# Altium integrated library TI Power Management Battery Management.IntLib: 949 symbols (part 3 of 62)
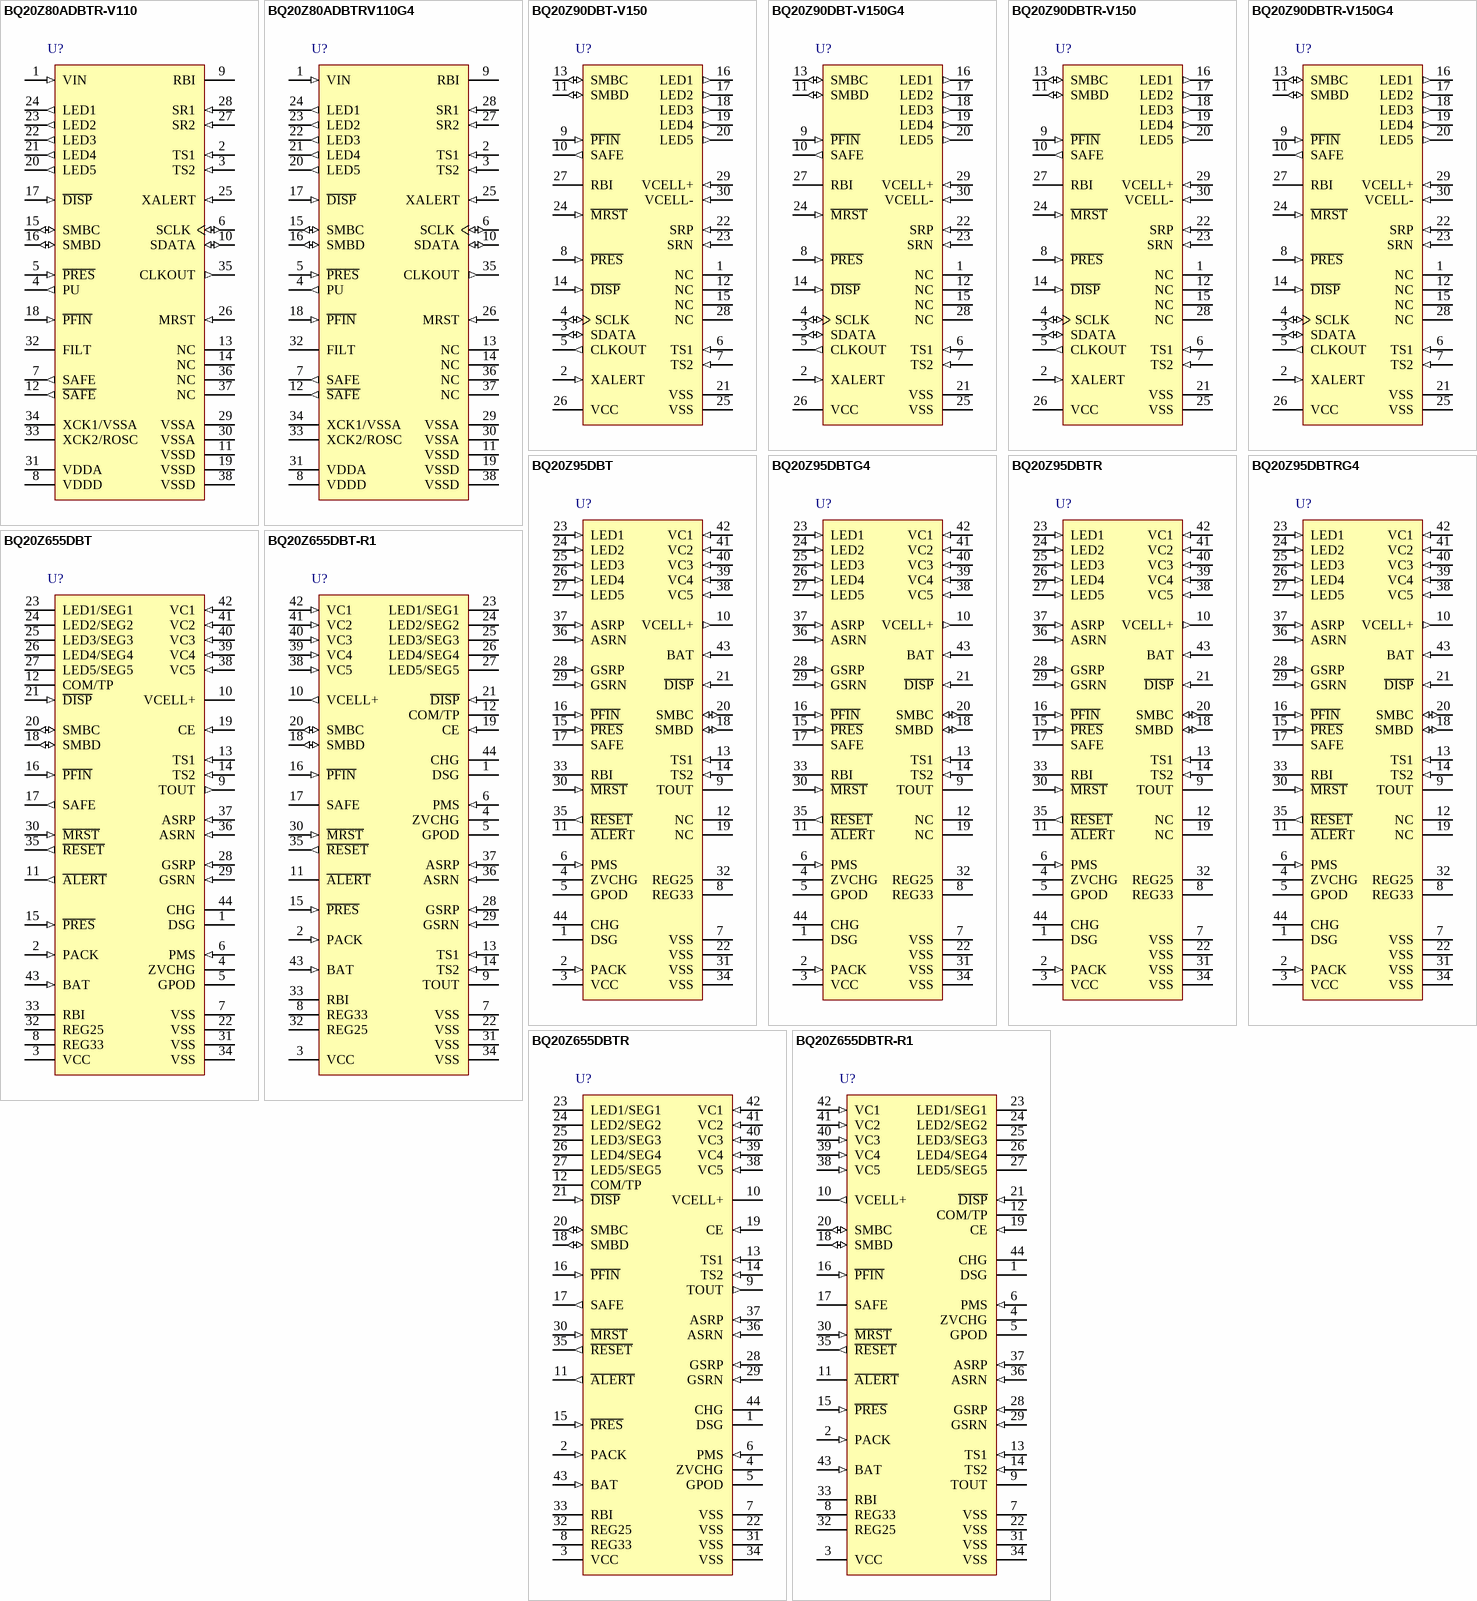
[diagram p36: symbols BQ20Z80ADBTR-V110 to BQ20Z655DBTR-R1]

## BQ20Z95DBTG4
designator U?
SBS 1.1-Compliant Gas Gauge Enabled with Impedance Track, -40 to 85 degC, 44-pin TSSOP (DBT), Green (RoHS & no Sb/Br); PartNumber: BQ20Z95DBTG4; Manufacturer: Texas Instruments; Lead Acid: N; Li-Ion: Y; SubFamily: Battery Fuel Gauge; DatasheetVersion: SLUS757B; PackageVersion: 38596; PackageReference: DBT44; PackageDescription: 44-Pin Thin Shrink Small Outline Package 0.5 mm Pitch; Supplier 1: Digi-Key; Supplier Part Number 1: BQ20Z95DBTG4-ND; Supplier 2: Newark; Supplier Part Number 2: 34P3336; Supplier 3: Mouser; Supplier Part Number 3: 595-BQ20Z95DBTG4; Eco-Plan: Green (RoHS & no Sb/Br); Li-Polymer: Y; NiCd: N; NiMH: N; Over Voltage Protection: N; Mounting Technology: Surface Mount; ComponentLink1Description: Datasheet; ComponentLink1URL: http://www.ti.com/general/docs/lit/getliterature.tsp?genericPartNumber=BQ20Z95&fileType=pdf
footprint DBT44_N (TSSOP, 44-Leads, Body 11.3x4.4mm, Pitch 0.5mm, IPC Medium Density)
footprint DBT44_L (TSSOP, 44-Leads, Body 11.3x4.4mm, Pitch 0.5mm, IPC High Density)
footprint DBT44_M (TSSOP, 44-Leads, Body 11.3x4.4mm, Pitch 0.5mm, IPC Low Density)
pins: 1 DSG "High side N-chan discharge FET gate drive", 2 PACK (in) "Battery pack input voltage sense input. It also serves as device wake up when device is in shutdown mode", 3 VCC (power) "Positive device supply input. Connect to the center connection of the CHG FET and DSG FET to ensure device supply either from battery stack or battery pack input", 4 ZVCHG "P-chan pre-charge FET gate drive", 5 GPOD (oc) "High voltage general purpose open drain output. Can be configured to be used in pre-charge condition", 6 PMS (in) "Pre-charge mode setting input. Connect to PACK to enable 0v pre-charge using charge FET connected at CHG pin. Connect to VSS to disable 0V pre-charge using charge FET connected at CHG pin", 7 VSS (power) "Negative device power supply input. Connect all VSS pins together for operation of device", 8 REG33 (power) "3.3V regulator output. Connect at least a 2.2uF capacitor to REG33 and VSS", 9 TOUT "Thermistor bias supply output", 10 VCELL+ (out) "Internal cell voltage multiplexer and amplifier output. Connect a 0.1uF capacitor to VCELL+ and VSS", 11 ~{ALER}T (oc) "Alert output. In case of short circuit condition, overload condition and watchdog time out this pin will be triggered.", 12 NC "Not connected", 13 TS1 (in) "Temperature sensor 1 input", 14 TS2 (in) "Temperature sensor 2 input", 15 ~{PRES} (in) "System / Host present input. Pull up to TOUT", 16 ~{PFIN} (in) "Fuse blow detection input", 17 SAFE (oc) "blow fuse signal output", 18 SMBD (io) "SMBus data line", 19 NC "Not connected", 20 SMBC (io) "SMBus clock line", 21 ~{DISP} (in) "Display enable input", 22 VSS (power) "Negative device power supply input. Connect all VSS pins together for operation of device", 23 LED1 (in) "LED 1 current sink input", 24 LED2 (in) "LED 2 current sink input", 25 LED3 (in) "LED 3 current sink input", 26 LED4 (in) "LED 4 current sink input", 27 LED5 (in) "LED 5 current sink input", 28 GSRP (in) "Coulomb counter differential input. Connect to one side of the sense resistor", 29 GSRN (in) "Coulomb counter differential input. Connect to one side of the sense resistor", 30 ~{MRST} (in) "Reset input for internal CPU core. connect to RESET for correct operation of device", 31 VSS (power) "Negative device power supply input. Connect all VSS pins together for operation of device", 32 REG25 (power) "2.5V regulator output. Connect at least a 1uF capacitor to REG25 and VSS", 33 RBI (power) "RAM backup input. Connect a capacitor to this pin and VSS to protect loss of RAM data in case of short circuit condition", 34 VSS (power) "Negative device power supply input. Connect all VSS pins together for operation of device", 35 ~{RESET} (out) "Reset output. Connect to M\S\R\T\.", 36 ASRN (in) "Short circuit and overload detection differential input. Connect to sense resistor", 37 ASRP (in) "Short circuit and overload detection differential input. Connect to sense resistor", 38 VC5 (in) "Cell voltage sense input and cell balancing input for the negative voltage of the bottom cell in cell stack", 39 VC4 (in) "Cell voltage sense input and cell balancing input for the positive voltage of the bottom cell and the negative voltage of the second lowest cell in cell stack.", 40 VC3 (in) "Cell voltage sense input and cell balancing input for the positive voltage of the second lowest cell in cell stack and the negative voltage of the second highest cell in 4 cell applications.", 41 VC2 (in) "Cell voltage sense input and cell balancing input for the positive voltage of the second highest cell and the negative voltage of the highest cell in 4 cell applications. Connect to VC3 in 2 cell stack applications", 42 VC1 (in) "Cell voltage sense input and cell balancing input for the positive voltage of the highest cell in cell stack in 4 cell applications. Connect to VC2 in 3 or 2 cell stack applications", 43 BAT (in) "Battery stack voltage sense input", 44 CHG "High side N-chan charge FET gate drive"

## BQ20Z95DBTR
designator U?
SBS 1.1-Compliant Gas Gauge Enabled with Impedance Track, -40 to 85 degC, 44-pin TSSOP (DBT), Green (RoHS & no Sb/Br); PartNumber: BQ20Z95DBTR; Manufacturer: Texas Instruments; Lead Acid: N; Li-Ion: Y; SubFamily: Battery Fuel Gauge; DatasheetVersion: SLUS757B; PackageVersion: 38596; PackageReference: DBT44; PackageDescription: 44-Pin Thin Shrink Small Outline Package 0.5 mm Pitch; Supplier 1: Digi-Key; Supplier Part Number 1: 296-25920-2-ND; Supplier 2: Digi-Key; Supplier Part Number 2: 296-25920-1-ND; Supplier 3: Digi-Key; Supplier Part Number 3: 296-25920-6-ND; Supplier 4: Newark; Supplier Part Number 4: 59M9836; Supplier 5: Mouser; Supplier Part Number 5: 595-BQ20Z95DBTR; Eco-Plan: Green (RoHS & no Sb/Br); Li-Polymer: Y; NiCd: N; NiMH: N; Over Voltage Protection: N; Mounting Technology: Surface Mount; ComponentLink1Description: Datasheet; ComponentLink1URL: http://www.ti.com/general/docs/lit/getliterature.tsp?genericPartNumber=BQ20Z95&fileType=pdf
footprint DBT44_N (TSSOP, 44-Leads, Body 11.3x4.4mm, Pitch 0.5mm, IPC Medium Density)
footprint DBT44_L (TSSOP, 44-Leads, Body 11.3x4.4mm, Pitch 0.5mm, IPC High Density)
footprint DBT44_M (TSSOP, 44-Leads, Body 11.3x4.4mm, Pitch 0.5mm, IPC Low Density)
pins: 1 DSG "High side N-chan discharge FET gate drive", 2 PACK (in) "Battery pack input voltage sense input. It also serves as device wake up when device is in shutdown mode", 3 VCC (power) "Positive device supply input. Connect to the center connection of the CHG FET and DSG FET to ensure device supply either from battery stack or battery pack input", 4 ZVCHG "P-chan pre-charge FET gate drive", 5 GPOD (oc) "High voltage general purpose open drain output. Can be configured to be used in pre-charge condition", 6 PMS (in) "Pre-charge mode setting input. Connect to PACK to enable 0v pre-charge using charge FET connected at CHG pin. Connect to VSS to disable 0V pre-charge using charge FET connected at CHG pin", 7 VSS (power) "Negative device power supply input. Connect all VSS pins together for operation of device", 8 REG33 (power) "3.3V regulator output. Connect at least a 2.2uF capacitor to REG33 and VSS", 9 TOUT "Thermistor bias supply output", 10 VCELL+ (out) "Internal cell voltage multiplexer and amplifier output. Connect a 0.1uF capacitor to VCELL+ and VSS", 11 ~{ALER}T (oc) "Alert output. In case of short circuit condition, overload condition and watchdog time out this pin will be triggered.", 12 NC "Not connected", 13 TS1 (in) "Temperature sensor 1 input", 14 TS2 (in) "Temperature sensor 2 input", 15 ~{PRES} (in) "System / Host present input. Pull up to TOUT", 16 ~{PFIN} (in) "Fuse blow detection input", 17 SAFE (oc) "blow fuse signal output", 18 SMBD (io) "SMBus data line", 19 NC "Not connected", 20 SMBC (io) "SMBus clock line", 21 ~{DISP} (in) "Display enable input", 22 VSS (power) "Negative device power supply input. Connect all VSS pins together for operation of device", 23 LED1 (in) "LED 1 current sink input", 24 LED2 (in) "LED 2 current sink input", 25 LED3 (in) "LED 3 current sink input", 26 LED4 (in) "LED 4 current sink input", 27 LED5 (in) "LED 5 current sink input", 28 GSRP (in) "Coulomb counter differential input. Connect to one side of the sense resistor", 29 GSRN (in) "Coulomb counter differential input. Connect to one side of the sense resistor", 30 ~{MRST} (in) "Reset input for internal CPU core. connect to RESET for correct operation of device", 31 VSS (power) "Negative device power supply input. Connect all VSS pins together for operation of device", 32 REG25 (power) "2.5V regulator output. Connect at least a 1uF capacitor to REG25 and VSS", 33 RBI (power) "RAM backup input. Connect a capacitor to this pin and VSS to protect loss of RAM data in case of short circuit condition", 34 VSS (power) "Negative device power supply input. Connect all VSS pins together for operation of device", 35 ~{RESET} (out) "Reset output. Connect to M\S\R\T\.", 36 ASRN (in) "Short circuit and overload detection differential input. Connect to sense resistor", 37 ASRP (in) "Short circuit and overload detection differential input. Connect to sense resistor", 38 VC5 (in) "Cell voltage sense input and cell balancing input for the negative voltage of the bottom cell in cell stack", 39 VC4 (in) "Cell voltage sense input and cell balancing input for the positive voltage of the bottom cell and the negative voltage of the second lowest cell in cell stack.", 40 VC3 (in) "Cell voltage sense input and cell balancing input for the positive voltage of the second lowest cell in cell stack and the negative voltage of the second highest cell in 4 cell applications.", 41 VC2 (in) "Cell voltage sense input and cell balancing input for the positive voltage of the second highest cell and the negative voltage of the highest cell in 4 cell applications. Connect to VC3 in 2 cell stack applications", 42 VC1 (in) "Cell voltage sense input and cell balancing input for the positive voltage of the highest cell in cell stack in 4 cell applications. Connect to VC2 in 3 or 2 cell stack applications", 43 BAT (in) "Battery stack voltage sense input", 44 CHG "High side N-chan charge FET gate drive"

## BQ20Z95DBTRG4
designator U?
SBS 1.1-Compliant Gas Gauge Enabled with Impedance Track, -40 to 85 degC, 44-pin TSSOP (DBT), Green (RoHS & no Sb/Br); PartNumber: BQ20Z95DBTRG4; Manufacturer: Texas Instruments; Lead Acid: N; Li-Ion: Y; SubFamily: Battery Fuel Gauge; DatasheetVersion: SLUS757B; PackageVersion: 38596; PackageReference: DBT44; PackageDescription: 44-Pin Thin Shrink Small Outline Package 0.5 mm Pitch; Supplier 1: Digi-Key; Supplier Part Number 1: BQ20Z95DBTRG4-ND; Supplier 2: Mouser; Supplier Part Number 2: 595-BQ20Z95DBTRG4; Eco-Plan: Green (RoHS & no Sb/Br); Li-Polymer: Y; NiCd: N; NiMH: N; Over Voltage Protection: N; Mounting Technology: Surface Mount; ComponentLink1Description: Datasheet; ComponentLink1URL: http://www.ti.com/general/docs/lit/getliterature.tsp?genericPartNumber=BQ20Z95&fileType=pdf
footprint DBT44_N (TSSOP, 44-Leads, Body 11.3x4.4mm, Pitch 0.5mm, IPC Medium Density)
footprint DBT44_L (TSSOP, 44-Leads, Body 11.3x4.4mm, Pitch 0.5mm, IPC High Density)
footprint DBT44_M (TSSOP, 44-Leads, Body 11.3x4.4mm, Pitch 0.5mm, IPC Low Density)
pins: 1 DSG "High side N-chan discharge FET gate drive", 2 PACK (in) "Battery pack input voltage sense input. It also serves as device wake up when device is in shutdown mode", 3 VCC (power) "Positive device supply input. Connect to the center connection of the CHG FET and DSG FET to ensure device supply either from battery stack or battery pack input", 4 ZVCHG "P-chan pre-charge FET gate drive", 5 GPOD (oc) "High voltage general purpose open drain output. Can be configured to be used in pre-charge condition", 6 PMS (in) "Pre-charge mode setting input. Connect to PACK to enable 0v pre-charge using charge FET connected at CHG pin. Connect to VSS to disable 0V pre-charge using charge FET connected at CHG pin", 7 VSS (power) "Negative device power supply input. Connect all VSS pins together for operation of device", 8 REG33 (power) "3.3V regulator output. Connect at least a 2.2uF capacitor to REG33 and VSS", 9 TOUT "Thermistor bias supply output", 10 VCELL+ (out) "Internal cell voltage multiplexer and amplifier output. Connect a 0.1uF capacitor to VCELL+ and VSS", 11 ~{ALER}T (oc) "Alert output. In case of short circuit condition, overload condition and watchdog time out this pin will be triggered.", 12 NC "Not connected", 13 TS1 (in) "Temperature sensor 1 input", 14 TS2 (in) "Temperature sensor 2 input", 15 ~{PRES} (in) "System / Host present input. Pull up to TOUT", 16 ~{PFIN} (in) "Fuse blow detection input", 17 SAFE (oc) "blow fuse signal output", 18 SMBD (io) "SMBus data line", 19 NC "Not connected", 20 SMBC (io) "SMBus clock line", 21 ~{DISP} (in) "Display enable input", 22 VSS (power) "Negative device power supply input. Connect all VSS pins together for operation of device", 23 LED1 (in) "LED 1 current sink input", 24 LED2 (in) "LED 2 current sink input", 25 LED3 (in) "LED 3 current sink input", 26 LED4 (in) "LED 4 current sink input", 27 LED5 (in) "LED 5 current sink input", 28 GSRP (in) "Coulomb counter differential input. Connect to one side of the sense resistor", 29 GSRN (in) "Coulomb counter differential input. Connect to one side of the sense resistor", 30 ~{MRST} (in) "Reset input for internal CPU core. connect to RESET for correct operation of device", 31 VSS (power) "Negative device power supply input. Connect all VSS pins together for operation of device", 32 REG25 (power) "2.5V regulator output. Connect at least a 1uF capacitor to REG25 and VSS", 33 RBI (power) "RAM backup input. Connect a capacitor to this pin and VSS to protect loss of RAM data in case of short circuit condition", 34 VSS (power) "Negative device power supply input. Connect all VSS pins together for operation of device", 35 ~{RESET} (out) "Reset output. Connect to M\S\R\T\.", 36 ASRN (in) "Short circuit and overload detection differential input. Connect to sense resistor", 37 ASRP (in) "Short circuit and overload detection differential input. Connect to sense resistor", 38 VC5 (in) "Cell voltage sense input and cell balancing input for the negative voltage of the bottom cell in cell stack", 39 VC4 (in) "Cell voltage sense input and cell balancing input for the positive voltage of the bottom cell and the negative voltage of the second lowest cell in cell stack.", 40 VC3 (in) "Cell voltage sense input and cell balancing input for the positive voltage of the second lowest cell in cell stack and the negative voltage of the second highest cell in 4 cell applications.", 41 VC2 (in) "Cell voltage sense input and cell balancing input for the positive voltage of the second highest cell and the negative voltage of the highest cell in 4 cell applications. Connect to VC3 in 2 cell stack applications", 42 VC1 (in) "Cell voltage sense input and cell balancing input for the positive voltage of the highest cell in cell stack in 4 cell applications. Connect to VC2 in 3 or 2 cell stack applications", 43 BAT (in) "Battery stack voltage sense input", 44 CHG "High side N-chan charge FET gate drive"

## BQ20Z655DBT
designator U?
SBS 1.1 Compliant Gas Gauge with LED / LCD Drive Feature and Impedance Track Technology, -40 to 85 degC, 44-pin TSSOP (DBT), Green (RoHS & no Sb/Br); PartNumber: BQ20Z655DBT; Manufacturer: Texas Instruments; Lead Acid: N; Li-Ion: Y; SubFamily: Battery Fuel Gauge; DatasheetVersion: SLUSAH8A; PackageVersion: 38596; PackageReference: DBT44; PackageDescription: 44-Pin Thin Shrink Small Outline Package 0.5 mm Pitch; Supplier 1: Digi-Key; Supplier Part Number 1: 296-28439-5-ND; Supplier 2: Newark; Supplier Part Number 2: 45T7826; Supplier 3: Mouser; Supplier Part Number 3: 595-BQ20Z655DBT; Eco-Plan: Green (RoHS & no Sb/Br); Li-Polymer: Y; NiCd: N; NiMH: N; Over Voltage Protection: N; Mounting Technology: Surface Mount; ComponentLink1Description: Datasheet; ComponentLink1URL: http://www.ti.com/general/docs/lit/getliterature.tsp?genericPartNumber=BQ20Z655&fileType=pdf
footprint DBT44_N (TSSOP, 44-Leads, Body 11.3x4.4mm, Pitch 0.5mm, IPC Medium Density)
footprint DBT44_L (TSSOP, 44-Leads, Body 11.3x4.4mm, Pitch 0.5mm, IPC High Density)
footprint DBT44_M (TSSOP, 44-Leads, Body 11.3x4.4mm, Pitch 0.5mm, IPC Low Density)
pins: 1 DSG "High side N-chan discharge FET gate drive", 2 PACK (in) "Battery pack input voltage sense input. It also serves as device wake up when device is in shutdown mode.", 3 VCC (power) "Positive device supply input. Connect to the center connection of the CHG FET and DSG FET to ensure device supply either from battery stack or battery pack input.", 4 ZVCHG "P-chan pre-charge FET gate drive", 5 GPOD (oc) "High voltage general purpose open drain output. It can be configured to be used in pre-charge condition", 6 PMS (in) "Pre-charge mode setting input. Connect to PACK to enable 0v pre-charge using charge FET connected at CHG pin. Connect to VSS to disable 0-V pre-charge using charge FET connected at CHG pin", 7 VSS (power) "Negative supply voltage input. Connect all VSS pins together for operation of device.", 8 REG33 (power) "3.3-V regulator output. Connect at least a 2.2-uF capacitor to REG33 and VSS.", 9 TOUT (out) "Thermistor bias supply output", 10 VCELL+ (power) "Internal cell voltage multiplexer and amplifier output. Connect a 0.1-uF capacitor to VCELL+ and VSS.", 11 ~{ALERT} (out) "Alert output. In case of short circuit condition, overload condition, and watchdog time out, this pin will be triggered", 12 COM/TP (oc) "Output/open drain: LCD common connection", 13 TS1 (in) "1st Thermistor voltage input connection to monitor temperature", 14 TS2 (in) "2nd Thermistor voltage input connection to monitor temperature", 15 ~{PRES} (in) "Active low input to sense system insertion. Typically requires additional ESD protection.", 16 ~{PFIN} (in) "Active low input to detect secondary protector status, and to allow the bq20z655 to report the status of the 2nd level protection input", 17 SAFE (out) "Active high output to enforce additional level of safety protection; e.g., fuse blow", 18 SMBD (io) "SMBus data open-drain bidirectional pin used to transfer address and data to and from the bq20z655", 19 CE (in) "A logical high on this pin only affects the normal operation on the charge FET when the battery is in charge/relax mode. For a logic low, the normal bq20z655 firmware controls the charge FET.", 20 SMBC (io) "SMBus clock open-drain bidirectional pin used to clock the data transfer to and from the bq20z655", 21 ~{DISP} (in) "Input: In LED mode, this is the display enable input.", 22 VSS (power) "Negative supply voltage input. Connect all VSS pins together for operation of device.", 23 LED1/SEG1 (oc) "Output/open drain: LED 1 current sink. LCD segment 1", 24 LED2/SEG2 (oc) "Output/open drain: LED 2 current sink. LCD segment 2", 25 LED3/SEG3 (oc) "Output/open drain: LED 3 current sink. LCD segment 3", 26 LED4/SEG4 (oc) "Output/open drain: LED 4 current sink. LCD segment 4", 27 LED5/SEG5 (oc) "Output/open drain: LED 5 current sink. LCD segment 5", 28 GSRP (in) "Coulomb counter differential input. Connect to one side of the sense resistor.", 29 GSRN (in) "Coulomb counter differential input. Connect to one side of the sense resistor.", 30 ~{MRST} (in) "Master reset input that forces the device into reset when held low. Must be held high for normal operation. Connect to R\E\S\E\T\ for correct operation of device", 31 VSS (power) "Negative supply voltage input. Connect all VSS pins together for operation of device.", 32 REG25 (power) "2.5-V regulator output. Connect at least a 1-uF capacitor to REG25 and VSS.", 33 RBI (power) "RAM/Register backup input. Connect a capacitor to this pin and VSS to protect loss of RAM/Register data in case of short circuit condition.", 34 VSS (power) "Negative supply voltage input. Connect all VSS pins together for operation of device.", 35 ~{RESET} (out) "Reset output. Connect to M\S\R\T\.", 36 ASRN (in) "Short circuit and overload detection differential input. Connect to sense resistor", 37 ASRP (in) "Short circuit and overload detection differential input. Connect to sense resistor", 38 VC5 (in) "Cell voltage sense input and cell balancing input for the negative voltage of the bottom cell in cell stack.", 39 VC4 (in) "Cell voltage sense input and cell balancing input for the positive voltage of the bottom cell and the negative voltage of the second lowest cell in cell stack.", 40 VC3 (in) "Cell voltage sense input and cell balancing input for the positive voltage of the second lowest cell in cell stack and the negative voltage of the second highest cell in 4-cell applications.", 41 VC2 (in) "Cell voltage sense input and cell balancing input for the positive voltage of the second highest cell and the negative voltage of the highest cell in 4 cell applications. Connect to VC3 in 2-cell stack applications", 42 VC1 (in) "Cell voltage sense input and cell balancing input for the positive voltage of the highest cell in cell stack in 4 cell applications. Connect to VC2 in 2- or 3-stack applications.", 43 BAT (in) "Battery stack voltage sense input", 44 CHG "High side N-channel charge FET gate drive"

## BQ20Z655DBT-R1
designator U?
SBS 1.1 Compliant Gas Gauge with LED / LCD Drive Feature and Impedance Track Technology, -40 to 85 degC, 44-pin TSSOP (DBT), Green (RoHS & no Sb/Br); PartNumber: BQ20Z655DBT-R1; Manufacturer: Texas Instruments; Lead Acid: N; Li-Ion: Y; SubFamily: Battery Fuel Gauge; DatasheetVersion: SLUSAN9; PackageVersion: 38596; PackageReference: DBT44; PackageDescription: 44-Pin Thin Shrink Small Outline Package 0.5 mm Pitch; Supplier 1: Digi-Key; Supplier Part Number 1: BQ20Z655DBT-R1-ND; Supplier 2: Newark; Supplier Part Number 2: 61T5814; Supplier 3: Mouser; Supplier Part Number 3: 595-BQ20Z655DBT-R1; Eco-Plan: Green (RoHS & no Sb/Br); Li-Polymer: Y; NiCd: N; NiMH: N; Over Voltage Protection: N; Mounting Technology: Surface Mount; ComponentLink1Description: Datasheet; ComponentLink1URL: http://www.ti.com/general/docs/lit/getliterature.tsp?genericPartNumber=BQ20Z655-R1&fileType=pdf
footprint DBT44_N (TSSOP, 44-Leads, Body 11.3x4.4mm, Pitch 0.5mm, IPC Medium Density)
footprint DBT44_L (TSSOP, 44-Leads, Body 11.3x4.4mm, Pitch 0.5mm, IPC High Density)
footprint DBT44_M (TSSOP, 44-Leads, Body 11.3x4.4mm, Pitch 0.5mm, IPC Low Density)
pins: 1 DSG "High side N-chan discharge FET gate drive", 2 PACK (in) "Battery pack input voltage sense input. It also serves as device wake up when device is in shutdown mode.", 3 VCC (power) "Positive device supply input. Connect to the center connection of the CHG FET and DSG FET to ensure device supply either from battery stack or battery pack input", 4 ZVCHG "P-chan pre-charge FET gate drive", 5 GPOD (oc) "High voltage general purpose open drain output. Can be configured to be used in pre-charge condition", 6 PMS (in) "Pre-charge mode setting input. Connect to PACK to enable 0v pre-charge using charge FET connected at CHG pin. Connect to VSS to disable 0V pre-charge using charge FET connected at CHG pin.", 7 VSS (power) "Negative supply voltage input. Connect all VSS pins together for operation of device", 8 REG33 (power) "3.3V regulator output. Connect at least a 2.2uF capacitor to REG33 and VSS", 9 TOUT "Thermistor bias supply output", 10 VCELL+ (out) "Internal cell voltage multiplexer and amplifier output. Connect a 0.1uF capacitor to VCELL+ and VSS", 11 ~{ALERT} (oc) "Alert output. In case of short circuit condition, overload condition and watchdog time out this pin will be triggered.", 12 COM/TP (oc) "Output / open drain: LCD common connection", 13 TS1 (in) "1st Thermistor voltage input connection to monitor temperature", 14 TS2 (in) "2nd Thermistor voltage input connection to monitor temperature", 15 ~{PRES} (in) "Active low input to sense system insertion. Typically requires additional ESD protection.", 16 ~{PFIN} (in) "Active low input to detect secondary protector status, and to allow the bq20z65-R1 to report the status of the 2nd level protection input.", 17 SAFE (oc) "Active high output to enforce additional level of safety protection; e.g., fuse blow.", 18 SMBD (io) "SMBus data open-drain bidirectional pin used to transfer address and data to and from the bq20z65-R1", 19 CE (in) "A logical high on this pin only affects the normal operation on the charge FET when the battery is in charge/relax mode. For a logic low, the normal bq20z655-R1 firmware controls the charge FET.", 20 SMBC (io) "SMBus clock open-drain bidirectional pin used to clock the data transfer to and from the bq20z65-R1", 21 ~{DISP} (in) "Display control for the LEDs. This pin is typically connected to VCC via a 100k ohm resistor and a push button switch connected to VSS.", 22 VSS (power) "Negative supply voltage input. Connect all VSS pins together for operation of device", 23 LED1/SEG1 (oc) "Output / open drain: LED 1 current sink. LCD segment 1", 24 LED2/SEG2 (oc) "Output / open drain: LED 2 current sink. LCD segment 2", 25 LED3/SEG3 (oc) "Output / open drain: LED 3 current sink. LCD segment 3", 26 LED4/SEG4 (oc) "Output / open drain: LED 4 current sink. LCD segment 4", 27 LED5/SEG5 (oc) "Output / open drain: LED 5 current sink. LCD segment 5", 28 GSRP (in) "Coulomb counter differential input. Connect to one side of the sense resistor", 29 GSRN (in) "Coulomb counter differential input. Connect to one side of the sense resistor", 30 ~{MRST} (in) "Master reset input that forces the device into reset when held low. Must be held high for normal operation. Connect to R\E\S\E\T\ for correct operation of device", 31 VSS (power) "Negative supply voltage input. Connect all VSS pins together for operation of device", 32 REG25 (power) "2.5V regulator output. Connect at least a 1mF capacitor to REG25 and VSS", 33 RBI (power) "RAM / Register backup input. Connect a capacitor to this pin and VSS to protect loss of RAM /Register data in case of short circuit condition.", 34 VSS (power) "Negative supply voltage input. Connect all VSS pins together for operation of device", 35 ~{RESET} (out) "Reset output. Connect to M\S\R\T\.", 36 ASRN (in) "Short circuit and overload detection differential input. Connect to sense resistor", 37 ASRP (in) "Short circuit and overload detection differential input. Connect to sense resistor", 38 VC5 (in) "Cell votage sense input and cell balancing input for the negative voltage of the bottom cell in cell stack.", 39 VC4 (in) "Cell votage sense input and cell balancing input for the positive voltage of the bottom cell and the negative voltage of the second lowest cell in cell stack.", 40 VC3 (in) "Cell voltage sense input and cell balancing input for the positive voltage of the second lowest cell in cell stack and the negative voltage of the second highest cell in 4 cell applications.", 41 VC2 (in) "Cell voltage sense input and cell balancing input for the positive voltage of the second highest cell and the negative voltage of the highest cell in 4 cell applications. Connect to VC3 in 2 cell stack applications.", 42 VC1 (in) "Cell voltage sense input and cell balancing input for the positive voltage of the highest cell in cell stack in 4 cell applications. Connect to VC2 in 3 or 2 cell stack applications.", 43 BAT (in) "Battery stack voltage sense input.", 44 CHG "High side N-channel charge FET gate drive"

## BQ20Z655DBTR
designator U?
SBS 1.1 Compliant Gas Gauge with LED / LCD Drive Feature and Impedance Track Technology, -40 to 85 degC, 44-pin TSSOP (DBT), Green (RoHS & no Sb/Br); PartNumber: BQ20Z655DBTR; Manufacturer: Texas Instruments; Lead Acid: N; Li-Ion: Y; SubFamily: Battery Fuel Gauge; DatasheetVersion: SLUSAH8A; PackageVersion: 38596; PackageReference: DBT44; PackageDescription: 44-Pin Thin Shrink Small Outline Package 0.5 mm Pitch; Supplier 1: Digi-Key; Supplier Part Number 1: BQ20Z655DBTR-ND; Supplier 2: Newark; Supplier Part Number 2: 45T7827; Supplier 3: Mouser; Supplier Part Number 3: 595-BQ20Z655DBTR; Eco-Plan: Green (RoHS & no Sb/Br); Li-Polymer: Y; NiCd: N; NiMH: N; Over Voltage Protection: N; Mounting Technology: Surface Mount; ComponentLink1Description: Datasheet; ComponentLink1URL: http://www.ti.com/general/docs/lit/getliterature.tsp?genericPartNumber=BQ20Z655&fileType=pdf
footprint DBT44_N (TSSOP, 44-Leads, Body 11.3x4.4mm, Pitch 0.5mm, IPC Medium Density)
footprint DBT44_L (TSSOP, 44-Leads, Body 11.3x4.4mm, Pitch 0.5mm, IPC High Density)
footprint DBT44_M (TSSOP, 44-Leads, Body 11.3x4.4mm, Pitch 0.5mm, IPC Low Density)
pins: 1 DSG "High side N-chan discharge FET gate drive", 2 PACK (in) "Battery pack input voltage sense input. It also serves as device wake up when device is in shutdown mode.", 3 VCC (power) "Positive device supply input. Connect to the center connection of the CHG FET and DSG FET to ensure device supply either from battery stack or battery pack input.", 4 ZVCHG "P-chan pre-charge FET gate drive", 5 GPOD (oc) "High voltage general purpose open drain output. It can be configured to be used in pre-charge condition", 6 PMS (in) "Pre-charge mode setting input. Connect to PACK to enable 0v pre-charge using charge FET connected at CHG pin. Connect to VSS to disable 0-V pre-charge using charge FET connected at CHG pin", 7 VSS (power) "Negative supply voltage input. Connect all VSS pins together for operation of device.", 8 REG33 (power) "3.3-V regulator output. Connect at least a 2.2-uF capacitor to REG33 and VSS.", 9 TOUT (out) "Thermistor bias supply output", 10 VCELL+ (power) "Internal cell voltage multiplexer and amplifier output. Connect a 0.1-uF capacitor to VCELL+ and VSS.", 11 ~{ALERT} (out) "Alert output. In case of short circuit condition, overload condition, and watchdog time out, this pin will be triggered", 12 COM/TP (oc) "Output/open drain: LCD common connection", 13 TS1 (in) "1st Thermistor voltage input connection to monitor temperature", 14 TS2 (in) "2nd Thermistor voltage input connection to monitor temperature", 15 ~{PRES} (in) "Active low input to sense system insertion. Typically requires additional ESD protection.", 16 ~{PFIN} (in) "Active low input to detect secondary protector status, and to allow the bq20z655 to report the status of the 2nd level protection input", 17 SAFE (out) "Active high output to enforce additional level of safety protection; e.g., fuse blow", 18 SMBD (io) "SMBus data open-drain bidirectional pin used to transfer address and data to and from the bq20z655", 19 CE (in) "A logical high on this pin only affects the normal operation on the charge FET when the battery is in charge/relax mode. For a logic low, the normal bq20z655 firmware controls the charge FET.", 20 SMBC (io) "SMBus clock open-drain bidirectional pin used to clock the data transfer to and from the bq20z655", 21 ~{DISP} (in) "Input: In LED mode, this is the display enable input.", 22 VSS (power) "Negative supply voltage input. Connect all VSS pins together for operation of device.", 23 LED1/SEG1 (oc) "Output/open drain: LED 1 current sink. LCD segment 1", 24 LED2/SEG2 (oc) "Output/open drain: LED 2 current sink. LCD segment 2", 25 LED3/SEG3 (oc) "Output/open drain: LED 3 current sink. LCD segment 3", 26 LED4/SEG4 (oc) "Output/open drain: LED 4 current sink. LCD segment 4", 27 LED5/SEG5 (oc) "Output/open drain: LED 5 current sink. LCD segment 5", 28 GSRP (in) "Coulomb counter differential input. Connect to one side of the sense resistor.", 29 GSRN (in) "Coulomb counter differential input. Connect to one side of the sense resistor.", 30 ~{MRST} (in) "Master reset input that forces the device into reset when held low. Must be held high for normal operation. Connect to R\E\S\E\T\ for correct operation of device", 31 VSS (power) "Negative supply voltage input. Connect all VSS pins together for operation of device.", 32 REG25 (power) "2.5-V regulator output. Connect at least a 1-uF capacitor to REG25 and VSS.", 33 RBI (power) "RAM/Register backup input. Connect a capacitor to this pin and VSS to protect loss of RAM/Register data in case of short circuit condition.", 34 VSS (power) "Negative supply voltage input. Connect all VSS pins together for operation of device.", 35 ~{RESET} (out) "Reset output. Connect to M\S\R\T\.", 36 ASRN (in) "Short circuit and overload detection differential input. Connect to sense resistor", 37 ASRP (in) "Short circuit and overload detection differential input. Connect to sense resistor", 38 VC5 (in) "Cell voltage sense input and cell balancing input for the negative voltage of the bottom cell in cell stack.", 39 VC4 (in) "Cell voltage sense input and cell balancing input for the positive voltage of the bottom cell and the negative voltage of the second lowest cell in cell stack.", 40 VC3 (in) "Cell voltage sense input and cell balancing input for the positive voltage of the second lowest cell in cell stack and the negative voltage of the second highest cell in 4-cell applications.", 41 VC2 (in) "Cell voltage sense input and cell balancing input for the positive voltage of the second highest cell and the negative voltage of the highest cell in 4 cell applications. Connect to VC3 in 2-cell stack applications", 42 VC1 (in) "Cell voltage sense input and cell balancing input for the positive voltage of the highest cell in cell stack in 4 cell applications. Connect to VC2 in 2- or 3-stack applications.", 43 BAT (in) "Battery stack voltage sense input", 44 CHG "High side N-channel charge FET gate drive"

## BQ20Z655DBTR-R1
designator U?
SBS 1.1 Compliant Gas Gauge with LED / LCD Drive feature and Impedance Track Technology, -40 to 85 degC, 44-pin TSSOP (DBT), Green (RoHS & no Sb/Br); PartNumber: BQ20Z655DBTR-R1; Manufacturer: Texas Instruments; Lead Acid: N; Li-Ion: Y; SubFamily: Battery Fuel Gauge; DatasheetVersion: SLUSAN9; PackageVersion: 38596; PackageReference: DBT44; PackageDescription: 44-Pin Thin Shrink Small Outline Package 0.5 mm Pitch; Supplier 1: Digi-Key; Supplier Part Number 1: 296-29396-2-ND; Supplier 2: Digi-Key; Supplier Part Number 2: 296-29396-1-ND; Supplier 3: Digi-Key; Supplier Part Number 3: 296-29396-6-ND; Supplier 4: Newark; Supplier Part Number 4: 61T5815; Supplier 5: Mouser; Supplier Part Number 5: 595-BQ20Z655DBTR-R1; Eco-Plan: Green (RoHS & no Sb/Br); Li-Polymer: Y; NiCd: N; NiMH: N; Over Voltage Protection: N; Mounting Technology: Surface Mount; ComponentLink1Description: Datasheet; ComponentLink1URL: http://www.ti.com/general/docs/lit/getliterature.tsp?genericPartNumber=BQ20Z655-R1&fileType=pdf
footprint DBT44_N (TSSOP, 44-Leads, Body 11.3x4.4mm, Pitch 0.5mm, IPC Medium Density)
footprint DBT44_L (TSSOP, 44-Leads, Body 11.3x4.4mm, Pitch 0.5mm, IPC High Density)
footprint DBT44_M (TSSOP, 44-Leads, Body 11.3x4.4mm, Pitch 0.5mm, IPC Low Density)
pins: 1 DSG "High side N-chan discharge FET gate drive", 2 PACK (in) "Battery pack input voltage sense input. It also serves as device wake up when device is in shutdown mode.", 3 VCC (power) "Positive device supply input. Connect to the center connection of the CHG FET and DSG FET to ensure device supply either from battery stack or battery pack input", 4 ZVCHG "P-chan pre-charge FET gate drive", 5 GPOD (oc) "High voltage general purpose open drain output. Can be configured to be used in pre-charge condition", 6 PMS (in) "Pre-charge mode setting input. Connect to PACK to enable 0v pre-charge using charge FET connected at CHG pin. Connect to VSS to disable 0V pre-charge using charge FET connected at CHG pin.", 7 VSS (power) "Negative supply voltage input. Connect all VSS pins together for operation of device", 8 REG33 (power) "3.3V regulator output. Connect at least a 2.2uF capacitor to REG33 and VSS", 9 TOUT "Thermistor bias supply output", 10 VCELL+ (out) "Internal cell voltage multiplexer and amplifier output. Connect a 0.1uF capacitor to VCELL+ and VSS", 11 ~{ALERT} (oc) "Alert output. In case of short circuit condition, overload condition and watchdog time out this pin will be triggered.", 12 COM/TP (oc) "Output / open drain: LCD common connection", 13 TS1 (in) "1st Thermistor voltage input connection to monitor temperature", 14 TS2 (in) "2nd Thermistor voltage input connection to monitor temperature", 15 ~{PRES} (in) "Active low input to sense system insertion. Typically requires additional ESD protection.", 16 ~{PFIN} (in) "Active low input to detect secondary protector status, and to allow the bq20z65-R1 to report the status of the 2nd level protection input.", 17 SAFE (oc) "Active high output to enforce additional level of safety protection; e.g., fuse blow.", 18 SMBD (io) "SMBus data open-drain bidirectional pin used to transfer address and data to and from the bq20z65-R1", 19 CE (in) "A logical high on this pin only affects the normal operation on the charge FET when the battery is in charge/relax mode. For a logic low, the normal bq20z655-R1 firmware controls the charge FET.", 20 SMBC (io) "SMBus clock open-drain bidirectional pin used to clock the data transfer to and from the bq20z65-R1", 21 ~{DISP} (in) "Display control for the LEDs. This pin is typically connected to VCC via a 100k ohm resistor and a push button switch connected to VSS.", 22 VSS (power) "Negative supply voltage input. Connect all VSS pins together for operation of device", 23 LED1/SEG1 (oc) "Output / open drain: LED 1 current sink. LCD segment 1", 24 LED2/SEG2 (oc) "Output / open drain: LED 2 current sink. LCD segment 2", 25 LED3/SEG3 (oc) "Output / open drain: LED 3 current sink. LCD segment 3", 26 LED4/SEG4 (oc) "Output / open drain: LED 4 current sink. LCD segment 4", 27 LED5/SEG5 (oc) "Output / open drain: LED 5 current sink. LCD segment 5", 28 GSRP (in) "Coulomb counter differential input. Connect to one side of the sense resistor", 29 GSRN (in) "Coulomb counter differential input. Connect to one side of the sense resistor", 30 ~{MRST} (in) "Master reset input that forces the device into reset when held low. Must be held high for normal operation. Connect to R\E\S\E\T\ for correct operation of device", 31 VSS (power) "Negative supply voltage input. Connect all VSS pins together for operation of device", 32 REG25 (power) "2.5V regulator output. Connect at least a 1mF capacitor to REG25 and VSS", 33 RBI (power) "RAM / Register backup input. Connect a capacitor to this pin and VSS to protect loss of RAM /Register data in case of short circuit condition.", 34 VSS (power) "Negative supply voltage input. Connect all VSS pins together for operation of device", 35 ~{RESET} (out) "Reset output. Connect to M\S\R\T\.", 36 ASRN (in) "Short circuit and overload detection differential input. Connect to sense resistor", 37 ASRP (in) "Short circuit and overload detection differential input. Connect to sense resistor", 38 VC5 (in) "Cell votage sense input and cell balancing input for the negative voltage of the bottom cell in cell stack.", 39 VC4 (in) "Cell votage sense input and cell balancing input for the positive voltage of the bottom cell and the negative voltage of the second lowest cell in cell stack.", 40 VC3 (in) "Cell voltage sense input and cell balancing input for the positive voltage of the second lowest cell in cell stack and the negative voltage of the second highest cell in 4 cell applications.", 41 VC2 (in) "Cell voltage sense input and cell balancing input for the positive voltage of the second highest cell and the negative voltage of the highest cell in 4 cell applications. Connect to VC3 in 2 cell stack applications.", 42 VC1 (in) "Cell voltage sense input and cell balancing input for the positive voltage of the highest cell in cell stack in 4 cell applications. Connect to VC2 in 3 or 2 cell stack applications.", 43 BAT (in) "Battery stack voltage sense input.", 44 CHG "High side N-channel charge FET gate drive"

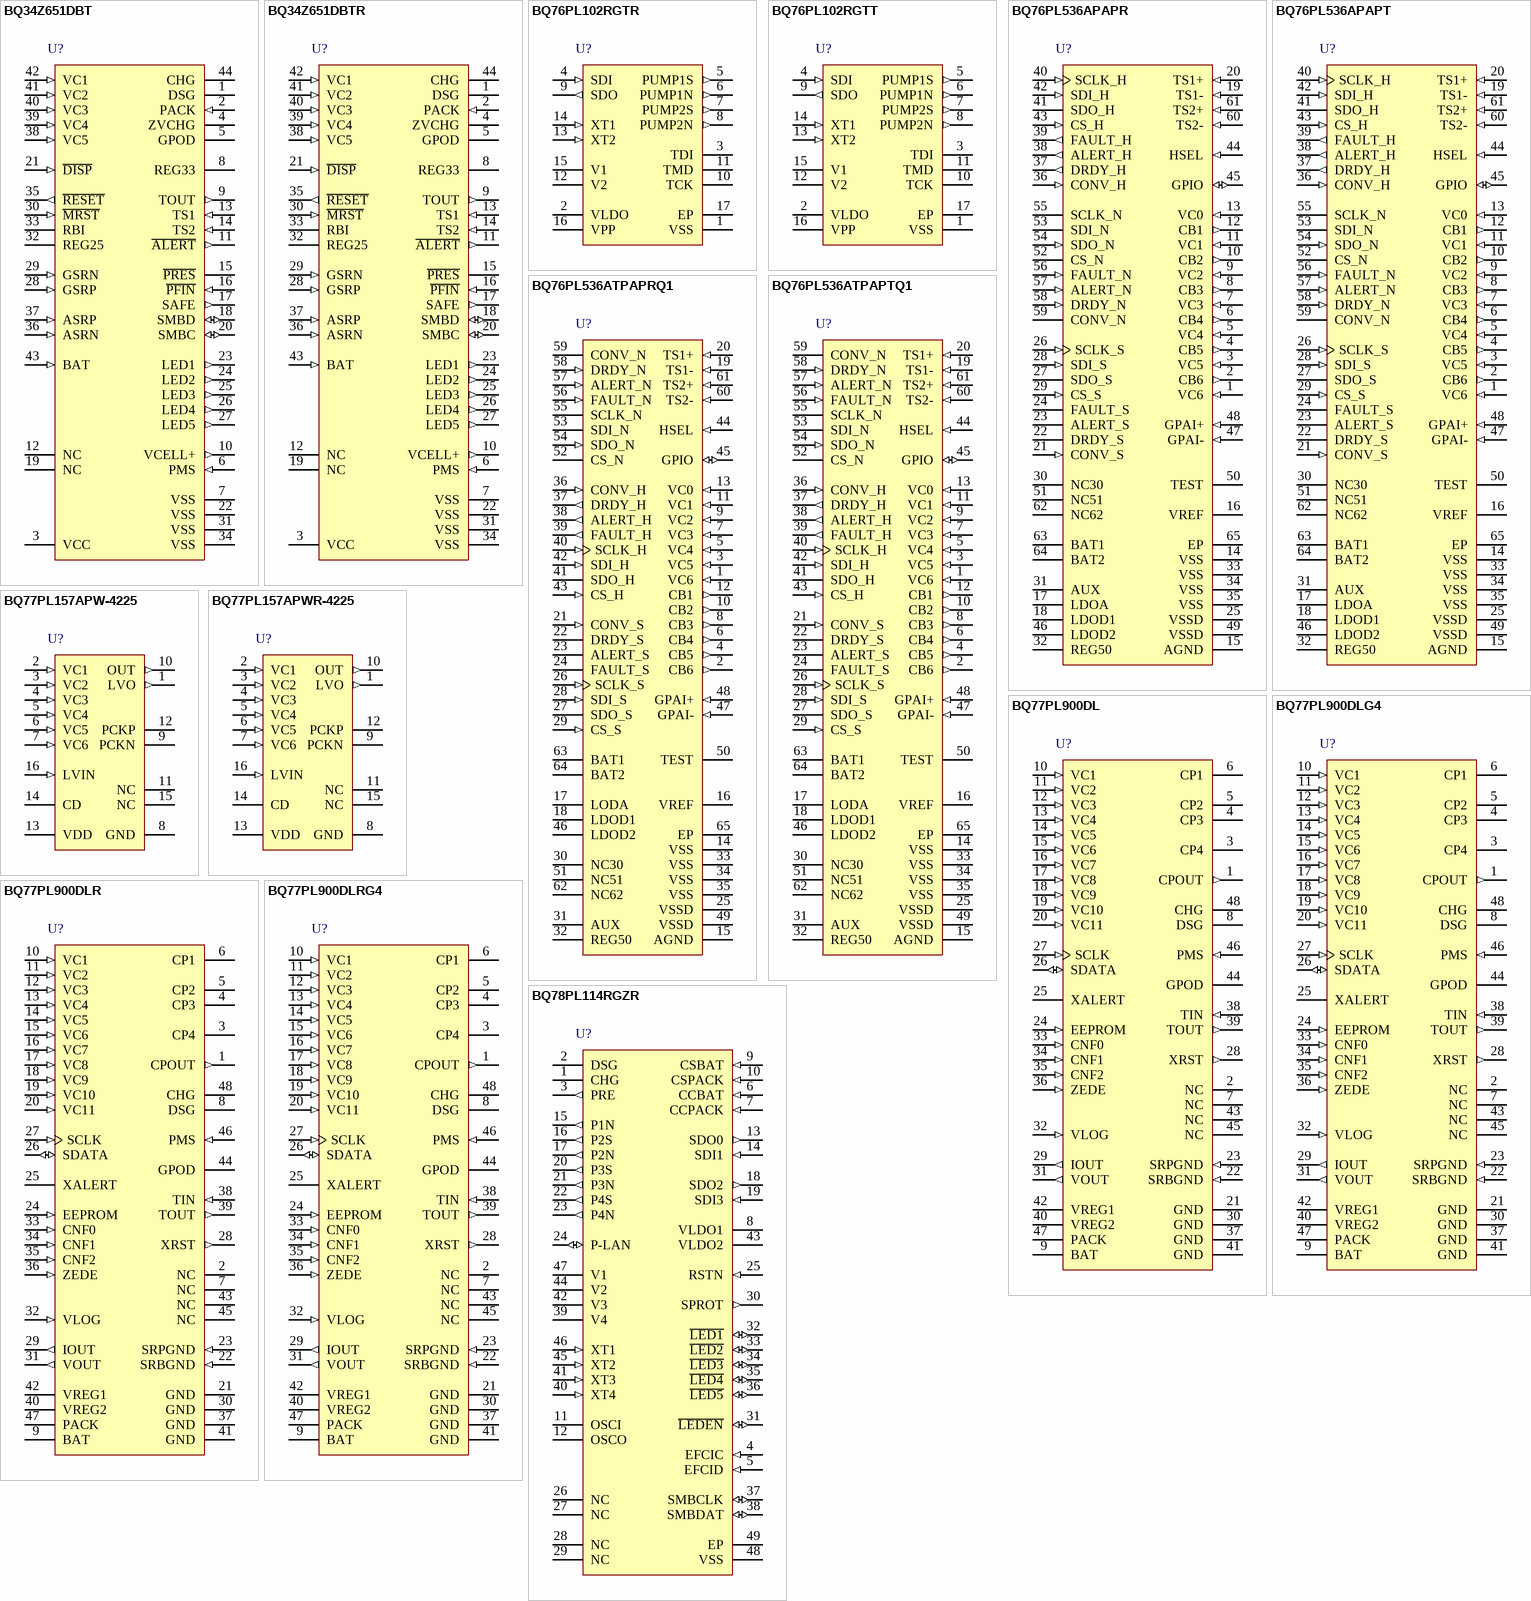
[diagram p2: symbols BQ34Z651DBT to BQ78PL114RGZR]

## BQ34Z651DBT
designator U?
SBS 1.1 Compliant Gas Gauge with Impedance Track Technology Design for Low Temperature Environment, -40 to 85 degC, 44-pin TSSOP (DBT), Green (RoHS & no Sb/Br); PartNumber: BQ34Z651DBT; Manufacturer: Texas Instruments; Lead Acid: N; Li-Ion: Y; SubFamily: Battery Fuel Gauge; DatasheetVersion: SLUSAL7; PackageVersion: 38596; PackageReference: DBT44; PackageDescription: 44-Pin Thin Shrink Small Outline Package 0.5 mm Pitch; Supplier 1: Digi-Key; Supplier Part Number 1: 296-29263-5-ND; Supplier 2: Newark; Supplier Part Number 2: 64T2888; Supplier 3: Mouser; Supplier Part Number 3: 595-BQ34Z651DBT; Eco-Plan: Green (RoHS & no Sb/Br); Li-Polymer: N; NiCd: N; NiMH: N; Over Voltage Protection: N; Mounting Technology: Surface Mount; ComponentLink1Description: Datasheet; ComponentLink1URL: http://www.ti.com/general/docs/lit/getliterature.tsp?genericPartNumber=BQ34Z651&fileType=pdf
footprint DBT44_N (TSSOP, 44-Leads, Body 11.3x4.4mm, Pitch 0.5mm, IPC Medium Density)
footprint DBT44_L (TSSOP, 44-Leads, Body 11.3x4.4mm, Pitch 0.5mm, IPC High Density)
footprint DBT44_M (TSSOP, 44-Leads, Body 11.3x4.4mm, Pitch 0.5mm, IPC Low Density)
pins: 1 DSG "High side N-chan discharge FET gate drive", 2 PACK (in) "Battery pack input voltage sense input. It also serves as device wake up when device is in shutdown mode.", 3 VCC (power) "Positive device supply input. Connect to the center connection of the CHG FET and DSG FET to ensure device supply either from battery stack or battery pack input", 4 ZVCHG "P-chan pre-charge FET gate drive", 5 GPOD "High voltage general purpose open drain output. Can be configured to be used in pre-charge condition", 6 PMS (in) "Pre-charge mode setting input. Connect to PACK to enable 0v pre-charge using charge FET connected at CHG pin. Connect to VSS to disable 0-V pre-charge using charge FET connected at CHG pin.", 7 VSS (power) "Negative supply voltage input. Connect all VSS pins together for operation of device", 8 REG33 (power) "3.3-V regulator output. Connect at least a 2.2-uF capacitor to REG33 and VSS", 9 TOUT (out) "Thermistor bias supply output", 10 VCELL+ (out) "Internal cell voltage multiplexer and amplifier output. Connect a 0.1-uF capacitor to VCELL+ and VSS", 11 ~{ALERT} (out) "Alert output. In case of short circuit condition, overload condition and watchdog time out this pin will be triggered", 12 NC "Not used--leave floating.", 13 TS1 (in) "1st Thermistor voltage input connection to monitor temperature", 14 TS2 (in) "2nd Thermistor voltage input connection to monitor temperature", 15 ~{PRES} "Active low input to sense system insertion. Typically requires additional ESD protection.", 16 ~{PFIN} (in) "Active low input to detect secondary protector status, and to allow the bq20z655-R1 to report the status of the 2nd level protection input.", 17 SAFE (out) "Active high output to enforce additional level of safety protection; e.g., fuse blow.", 18 SMBD (io) "SMBus data open-drain bidirectional pin used to transfer address and data to and from the bq20z655-R1", 19 NC "Not used--leave floating.", 20 SMBC (io) "SMBus clock open-drain bidirectional pin used to clock the data transfer to and from the bq20z655-R1", 21 ~{DISP} (in) "Input: In LED mode, this is the display enable input.", 22 VSS (power) "Negative supply voltage input. Connect all VSS pins together for operation of device", 23 LED1 (out) "LED1 display segment that drives an external LED depending on the firmware configuration", 24 LED2 (out) "LED2 display segment that drives an external LED depending on the firmware configuration", 25 LED3 (out) "LED3 display segment that drives an external LED depending on the firmware configuration", 26 LED4 (out) "LED4 display segment that drives an external LED depending on the firmware configuration", 27 LED5 (out) "LED5 display segment that drives an external LED depending on the firmware configuration", 28 GSRP (in) "Coulomb counter differential input. Connect to one side of the sense resistor", 29 GSRN (in) "Coulomb counter differential input. Connect to one side of the sense resistor", 30 ~{MRST} (in) "Master reset input that forces the device into reset when held low. Must be held high for normal operation. Connect to R\E\S\E\T\ for correct operation of device", 31 VSS (power) "Negative supply voltage input. Connect all VSS pins together for operation of device", 32 REG25 (power) "2.5V regulator output. Connect at least a 1-mF capacitor to REG25 and VSS", 33 RBI (power) "RAM / Register backup input. Connect a capacitor to this pin and VSS to protect loss of RAM/Register data in case of short circuit condition.", 34 VSS (power) "Negative supply voltage input. Connect all VSS pins together for operation of device", 35 ~{RESET} (out) "Reset output. Connect to M\S\R\T\.", 36 ASRN (in) "Short circuit and overload detection differential input. Connect to sense resistor", 37 ASRP (in) "Short circuit and overload detection differential input. Connect to sense resistor", 38 VC5 (in) "Cell voltage sense input and cell balancing input for the negative voltage of the bottom cell in cell stack.", 39 VC4 (in) "Cell voltage sense input and cell balancing input for the positive voltage of the bottom cell and the negative voltage of the second lowest cell in cell stack.", 40 VC3 (in) "Cell voltage sense input and cell balancing input for the positive voltage of the second lowest cell in cell stack and the negative voltage of the second highest cell in 4 cell applications.", 41 VC2 (in) "Cell voltage sense input and cell balancing input for the positive voltage of the second highest cell and the negative voltage of the highest cell in 4 cell applications. Connect to VC3 in 2 cell stack applications.", 42 VC1 (in) "Cell voltage sense input and cell balancing input for the positive voltage of the highest cell in cell stack in 4 cell applications. Connect to VC2 in 2- or 3-stack applications.", 43 BAT (in) "Battery stack voltage sense input.", 44 CHG "High side N-channel charge FET gate drive"